# Altium schematic symbol library 8.其他连接器原理库.SchLib: 31 symbols
Pins are listed as number, name and electrical type; pins without a type are passive.

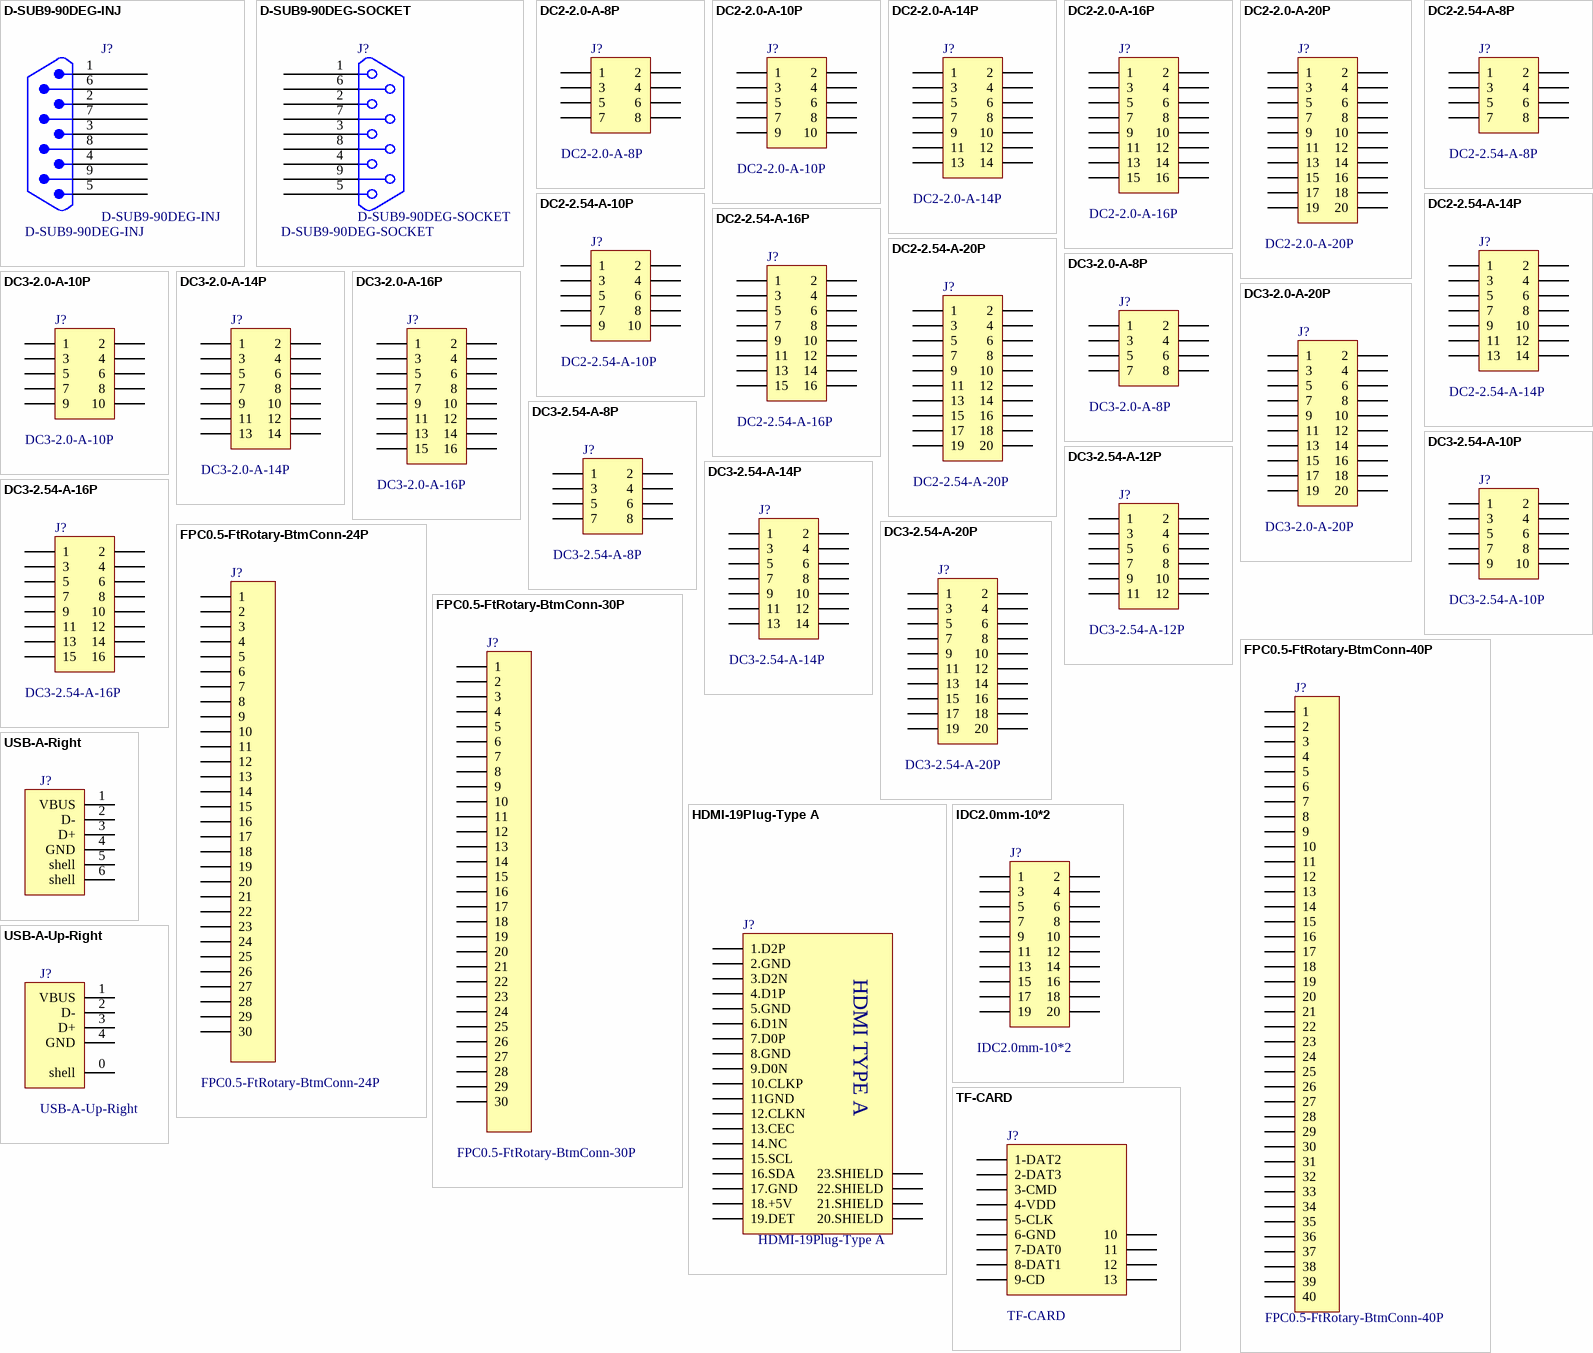
[diagram p0: symbols D-SUB9-90DEG-INJ to USB-A-Up-Right]

## D-SUB9-90DEG-INJ
designator J?
Value: D-SUB9-90DEG-INJ
footprint D-SUB9-90DEG-INJ (Connector; D Subminiature; 9 Position; Right Angle; Pitch 1.385 mm)
pins: 1, 2, 3, 4, 5, 6, 7, 8, 9

## D-SUB9-90DEG-SOCKET
designator J?
Value: D-SUB9-90DEG-SOCKET
footprint D-SUB9-90DEG-SOCKET (Connector; D Subminiature; 9 Position; Right Angle; Pitch 1.385 mm)
pins: 1, 2, 3, 4, 5, 6, 7, 8, 9

## DC2-2.0-A-8P
designator J?
牛角座2.0 直插; Value: DC2-2.0-A-8P
footprint DC2-2.0-A-8P (Footprint not found)
pins: 1, 2, 3, 4, 5, 6, 7, 8

## DC2-2.0-A-10P
designator J?
牛角座2.0 直插; Value: DC2-2.0-A-10P
footprint DC2-2.0-A-10P (Footprint not found)
pins: 1, 2, 3, 4, 5, 6, 7, 8, 9, 10

## DC2-2.0-A-14P
designator J?
牛角座2.0 直插; Value: DC2-2.0-A-14P
footprint DC2-2.0-A-14P (Footprint not found)
pins: 1, 2, 3, 4, 5, 6, 7, 8, 9, 10, 11, 12, 13, 14

## DC2-2.0-A-16P
designator J?
牛角座2.0 直插; Value: DC2-2.0-A-16P
footprint DC2-2.0-A-16P (Footprint not found)
pins: 1, 2, 3, 4, 5, 6, 7, 8, 9, 10, 11, 12, 13, 14, 15, 16

## DC2-2.0-A-20P
designator J?
牛角座2.0 直插; Value: DC2-2.0-A-20P
footprint DC2-2.0-A-20P (Footprint not found)
pins: 1, 2, 3, 4, 5, 6, 7, 8, 9, 10, 11, 12, 13, 14, 15, 16, 17, 18, 19, 20

## DC2-2.54-A-8P
designator J?
牛角座 2.54 直插; Value: DC2-2.54-A-8P
footprint DC2-2.54-A-8P (Footprint not found)
pins: 1, 2, 3, 4, 5, 6, 7, 8

## DC2-2.54-A-10P
designator J?
牛角座 2.54 直插; Value: DC2-2.54-A-10P
footprint DC2-2.54-A-10P
pins: 1, 2, 3, 4, 5, 6, 7, 8, 9, 10

## DC2-2.54-A-14P
designator J?
牛角座 2.54 直插; Value: DC2-2.54-A-14P
footprint DC2-2.54-A-14P (Footprint not found)
pins: 1, 2, 3, 4, 5, 6, 7, 8, 9, 10, 11, 12, 13, 14

## DC2-2.54-A-16P
designator J?
牛角座 2.54 直插; Value: DC2-2.54-A-16P
footprint DC2-2.54-A-16P
pins: 1, 2, 3, 4, 5, 6, 7, 8, 9, 10, 11, 12, 13, 14, 15, 16

## DC2-2.54-A-20P
designator J?
牛角座 2.54 直插; Value: DC2-2.54-A-20P
footprint DC2-2.54-A-20P (Footprint not found)
pins: 1, 2, 3, 4, 5, 6, 7, 8, 9, 10, 11, 12, 13, 14, 15, 16, 17, 18, 19, 20

## DC3-2.0-A-8P
designator J?
简易牛角座 2.0 直插; Value: DC3-2.0-A-8P
footprint DC3-2.0-A-8P
pins: 1, 2, 3, 4, 5, 6, 7, 8

## DC3-2.0-A-10P
designator J?
简易牛角座 2.0 直插; Value: DC3-2.0-A-10P
footprint DC3-2.0-A-10P
pins: 1, 2, 3, 4, 5, 6, 7, 8, 9, 10

## DC3-2.0-A-14P
designator J?
简易牛角座 2.0 直插; Value: DC3-2.0-A-14P
footprint DC3-2.0-A-14P
pins: 1, 2, 3, 4, 5, 6, 7, 8, 9, 10, 11, 12, 13, 14

## DC3-2.0-A-16P
designator J?
简易牛角座 2.0 直插; Value: DC3-2.0-A-16P
footprint DC3-2.0-A-16P
pins: 1, 2, 3, 4, 5, 6, 7, 8, 9, 10, 11, 12, 13, 14, 15, 16

## DC3-2.0-A-20P
designator J?
简易牛角座 2.0 直插; Value: DC3-2.0-A-20P
footprint DC3-2.0-A-20P
pins: 1, 2, 3, 4, 5, 6, 7, 8, 9, 10, 11, 12, 13, 14, 15, 16, 17, 18, 19, 20

## DC3-2.54-A-8P
designator J?
简易牛角座 2.54 直插; Value: DC3-2.54-A-8P
footprint DC3-2.54-A-8P
pins: 1, 2, 3, 4, 5, 6, 7, 8

## DC3-2.54-A-10P
designator J?
简易牛角座 2.54 直插; Value: DC3-2.54-A-10P
footprint DC3-2.54-A-10P
pins: 1, 2, 3, 4, 5, 6, 7, 8, 9, 10

## DC3-2.54-A-12P
designator J?
简易牛角座 2.54 直插; Value: DC3-2.54-A-12P
footprint DC3-2.54-A-12P
pins: 1, 2, 3, 4, 5, 6, 7, 8, 9, 10, 11, 12

## DC3-2.54-A-14P
designator J?
简易牛角座 2.54 直插; Value: DC3-2.54-A-14P
footprint DC3-2.54-A-14P
pins: 1, 2, 3, 4, 5, 6, 7, 8, 9, 10, 11, 12, 13, 14

## DC3-2.54-A-16P
designator J?
简易牛角座 2.54 直插; Value: DC3-2.54-A-16P
footprint DC3-2.54-A-16P
pins: 1, 2, 3, 4, 5, 6, 7, 8, 9, 10, 11, 12, 13, 14, 15, 16

## DC3-2.54-A-20P
designator J?
简易牛角座 2.54 直插; Value: DC3-2.54-A-20P
footprint DC3-2.54-A-20P
pins: 1, 2, 3, 4, 5, 6, 7, 8, 9, 10, 11, 12, 13, 14, 15, 16, 17, 18, 19, 20

## FPC0.5-FtRotary-BtmConn-24P
designator J?
Value: FPC0.5-FtRotary-BtmConn-24P
footprint FPC0.5-FtRotary-BtmConn-24P
pins: 1, 2, 3, 4, 5, 6, 7, 8, 9, 10, 11, 12, 13, 14, 15, 16, 17, 18, 19, 20, 21, 22, 23, 24, 25, 26, 27, 28, 29, 30

## FPC0.5-FtRotary-BtmConn-30P
designator J?
Value: FPC0.5-FtRotary-BtmConn-30P
footprint FPC0.5-FtRotary-BtmConn-30P
pins: 1, 2, 3, 4, 5, 6, 7, 8, 9, 10, 11, 12, 13, 14, 15, 16, 17, 18, 19, 20, 21, 22, 23, 24, 25, 26, 27, 28, 29, 30

## FPC0.5-FtRotary-BtmConn-40P
designator J?
Value: FPC0.5-FtRotary-BtmConn-40P
footprint FPC0.5-FtRotary-BtmConn-40P
pins: 1, 2, 3, 4, 5, 6, 7, 8, 9, 10, 11, 12, 13, 14, 15, 16, 17, 18, 19, 20, 21, 22, 23, 24, 25, 26, 27, 28, 29, 30, 31, 32, 33, 34, 35, 36, 37, 38, 39, 40

## HDMI-19Plug-Type A
designator J?
Value: HDMI-19Plug-Type A
footprint FPC0.5-FtRotary-BtmConn-30P
pins: 1 1.D2P, 2 2.GND, 3 3.D2N, 4 4.D1P, 5 5.GND, 6 6.D1N, 7 7.D0P, 8 8.GND, 9 9.D0N, 10 10.CLKP, 11 11GND, 12 12.CLKN, 13 13.CEC, 14 14.NC, 15 15.SCL, 16 16.SDA, 17 17.GND, 18 18.+5V, 19 19.DET, 20 20.SHIELD, 21 21.SHIELD, 22 22.SHIELD, 23 23.SHIELD
text: HDMI TYPE A

## IDC2.0mm-10*2
designator J?
Header, 10-Pin, Dual row; Value: IDC2.0mm-10*2
footprint IDC2.0mm-10*2
pins: 1, 2, 3, 4, 5, 6, 7, 8, 9, 10, 11, 12, 13, 14, 15, 16, 17, 18, 19, 20

## TF-CARD
designator J?
Value: TF-CARD
footprint TF-CARD
pins: 1 1-DAT2, 2 2-DAT3, 3 3-CMD, 4 4-VDD, 5 5-CLK, 6 6-GND, 7 7-DAT0, 8 8-DAT1, 9 9-CD, 10, 11, 12, 13

## USB-A-Right
designator J?  (value not drawn)
USB Header; Value: USB-A-Right
footprint USB-A-Right
pins: 1 VBUS, 2 D-, 3 D+, 4 GND, 5 shell, 6 shell

## USB-A-Up-Right
designator J?
USB Header; Value: USB-A-Up-Right
footprint USB-A-Up-Right
pins: 0 shell, 1 VBUS, 2 D-, 3 D+, 4 GND